# Altium footprint library PXHK.PCBLIB: 44 footprints (part 2 of 3)
Each footprint in its own frame and in the unit in brackets; x right, y up, seen from the top. Pads: shape width x height; smd on the part's side, far side on the other; paste and mask are expansions set on the pad; w line width, h text height; cw(c..) or ccw(c..) is an arc to the next point about the centre after c.
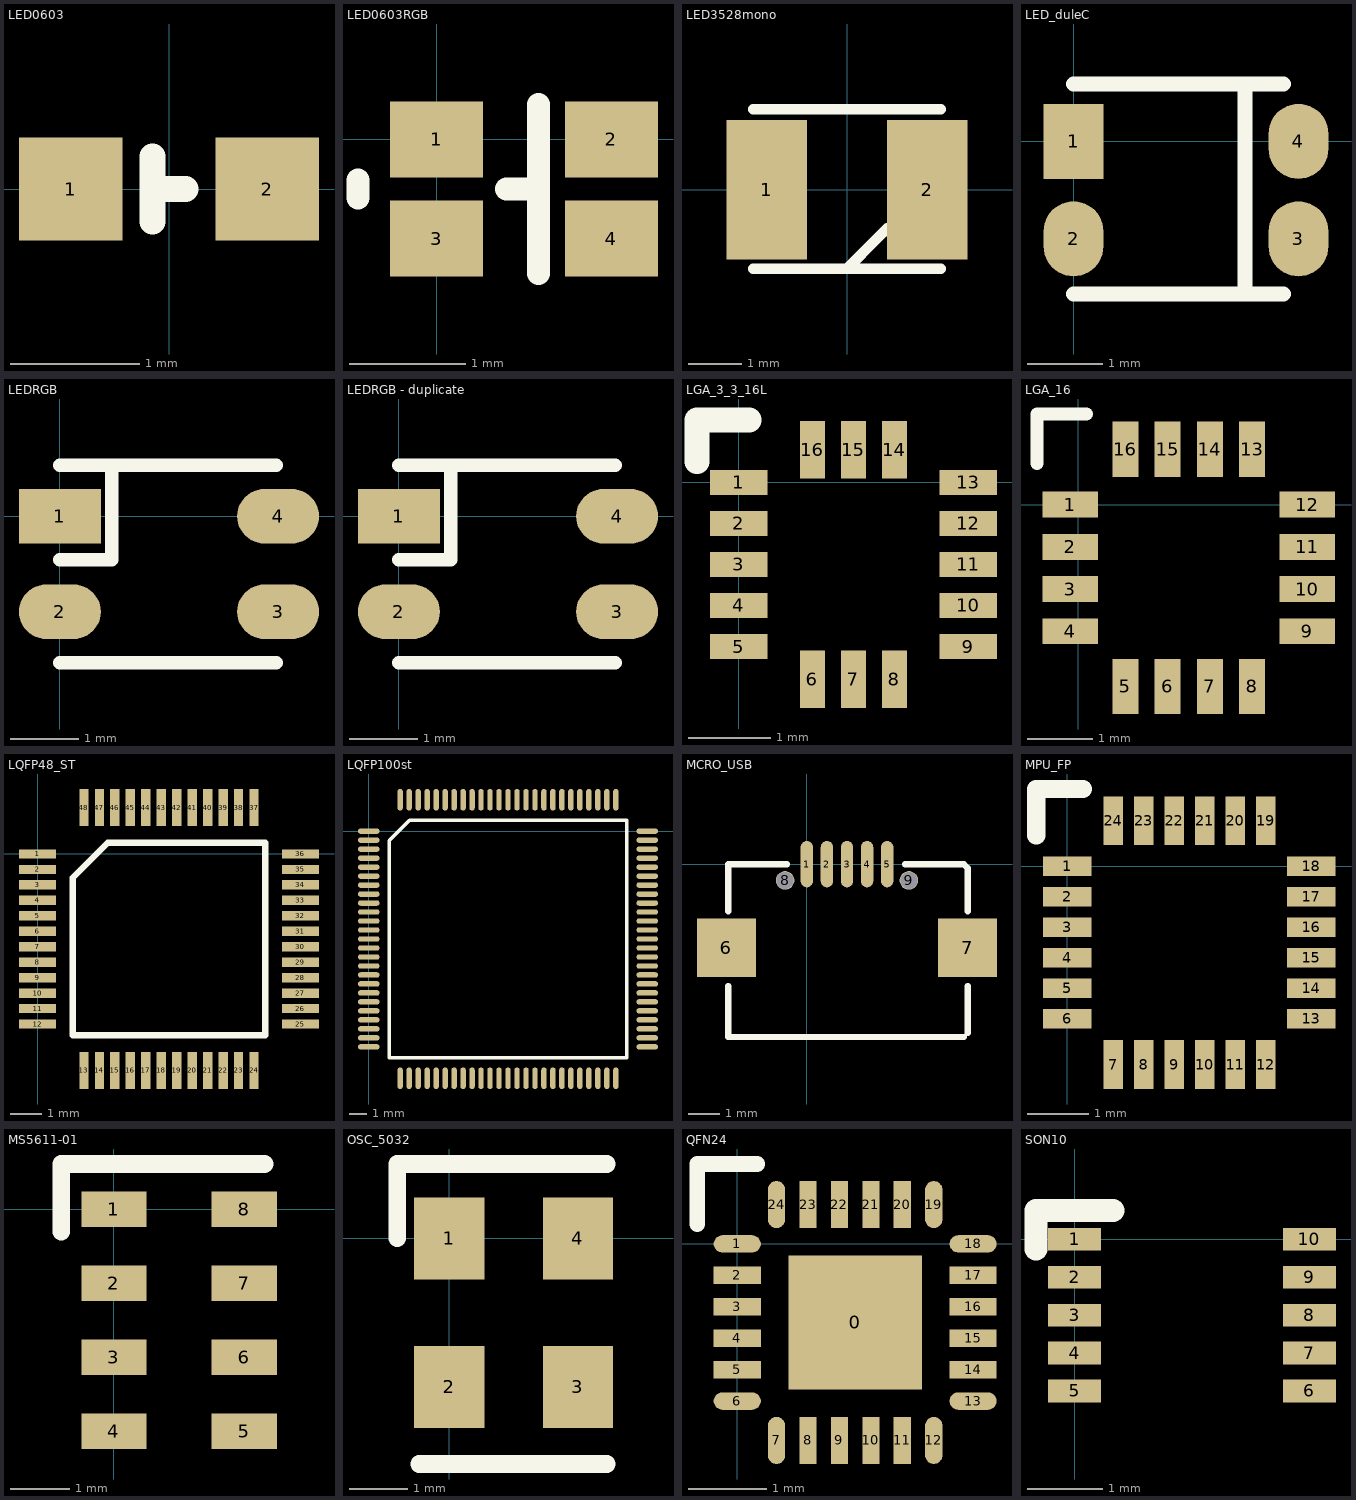
[diagram p1: the footprints below, top view; thin cyan lines are the x and y axes]

## LED0603 [mm]
pads (2):
  rect 0.8x0.8 smd: 1(-0.762,0) 2(0.762,0)
Top Overlay:
  lines w0.2: -0.127,-0.254 -0.127,0.254 ; -0.127,0 0.127,0

## LED0603RGB [mm]
height 0.6
pads (4):
  rect 0.8x0.65 smd: 1(0,0) 2(1.5,0) 3(0,-0.85) 4(1.5,-0.85)
Top Overlay:
  lines w0.2: -0.675,-0.5 -0.675,-0.35 ; 0.6,-0.425 0.875,-0.425 ; 0.875,-1.15 0.875,0.3

## LED3528mono [mm]
pads (2):
  rect 1.5x2.6 smd: 1(-1.5,0) 2(1.5,0)
Top Overlay:
  lines w0.2: -1.75,-1.475 1.75,-1.475 ; -1.75,1.5 1.75,1.5 ; 0.75,-0.725 0.575,-0.9 ; 0,-1.475 0,-1.475 ; 0,-1.475 0.575,-0.9 ; 0.575,-0.9 0.575,-0.9

## LED_duleC [mm]
pads (4):
  rect 0.8x1 smd: 1(0,0)
  oval 0.8x1 smd: 2(0,-1.3) 3(3,-1.3) 4(3,0)
Top Overlay:
  lines w0.2: 0,-2.032 2.8,-2.032 ; 0,0.762 2.8,0.762 ; 2.286,-2.032 2.286,0.762

## LEDRGB [mm]
pads (4):
  rect 1.2x0.8 smd: 1(0,0)
  oval 1.2x0.8 smd: 2(0,-1.4) 3(3.2,-1.4) 4(3.2,0)
Top Overlay:
  lines w0.2: 0,-2.15 3.175,-2.15 ; 0,-0.635 0.762,-0.635 0.762,-0.127 0.762,0.75 ; 0,0.75 3.175,0.75

## LEDRGB - duplicate [mm]
pads (4):
  rect 1.2x0.8 smd: 1(0,0)
  oval 1.2x0.8 smd: 2(0,-1.4) 3(3.2,-1.4) 4(3.2,0)
Top Overlay:
  lines w0.2: 0,-2.15 3.175,-2.15 ; 0,-0.635 0.762,-0.635 0.762,-0.127 0.762,0.75 ; 0,0.75 3.175,0.75

## LGA_3_3_16L [mm]
pads (16):
  rect 0.7x0.3 smd: 1(0,0) 2(0,-0.5) 3(0,-1) 4(0,-1.5) 5(0,-2) 9(2.8,-2) 10(2.8,-1.5) 11(2.8,-1) 12(2.8,-0.5) 13(2.8,0)
  rect 0.3x0.7 smd: 6(0.9,-2.4) 7(1.4,-2.4) 8(1.9,-2.4) 14(1.9,0.4) 15(1.4,0.4) 16(0.9,0.4)
Top Overlay:
  lines w0.3: -0.508,0.254 -0.508,0.762 0.127,0.762

## LGA_16 [mm]
pads (16):
  rect 0.85x0.4 smd: 1(-0.125,0) 2(-0.125,-0.65) 3(-0.125,-1.3) 4(-0.125,-1.95) 9(3.525,-1.95) 10(3.525,-1.3) 11(3.525,-0.65) 12(3.525,0)
  rect 0.4x0.85 smd: 5(0.725,-2.8) 6(1.375,-2.8) 7(2.025,-2.8) 8(2.675,-2.8) 13(2.675,0.855) 14(2.025,0.855) 15(1.375,0.855) 16(0.725,0.855)
Top Overlay:
  lines w0.2: -0.635,0.635 -0.635,1.397 0.127,1.397

## LQFP48_ST [mm]
pads (48):
  rect 1.2x0.3 smd: 1(0,0) 2(0,-0.5) 3(0,-1) 4(0,-1.5) 5(0,-2) 6(0,-2.5) 7(0,-3) 8(0,-3.5) 9(0,-4) 10(0,-4.5) 11(0,-5) 12(0,-5.5) 25(8.5,-5.5) 26(8.5,-5) 27(8.5,-4.5) 28(8.5,-4) 29(8.5,-3.5) 30(8.5,-3) 31(8.5,-2.5) 32(8.5,-2) 33(8.5,-1.5) 34(8.5,-1) 35(8.5,-0.5) 36(8.5,0)
  rect 0.3x1.2 smd: 13(1.5,-7) 14(2,-7) 15(2.5,-7) 16(3,-7) 17(3.5,-7) 18(4,-7) 19(4.5,-7) 20(5,-7) 21(5.5,-7) 22(6,-7) 23(6.5,-7) 24(7,-7) 37(7,1.5) 38(6.5,1.5) 39(6,1.5) 40(5.5,1.5) 41(5,1.5) 42(4.5,1.5) 43(4,1.5) 44(3.5,1.5) 45(3,1.5) 46(2.5,1.5) 47(2,1.5) 48(1.5,1.5)
Top Overlay:
  lines w0.2: 1.135,-5.865 1.135,-0.77 2.27,0.365 7.365,0.365 7.365,-5.865 1.135,-5.865

## LQFP100st [mm]
pads (100):
  oval 1.2x0.3 smd: 1(0,0) 2(0,-0.5) 3(0,-1) 4(0,-1.5) 5(0,-2) 6(0,-2.5) 7(0,-3) 8(0,-3.5) 9(0,-4) 10(0,-4.5) 11(0,-5) 12(0,-5.5) 13(0,-6) 14(0,-6.5) 15(0,-7) 16(0,-7.5) 17(0,-8) 18(0,-8.5) 19(0,-9) 20(0,-9.5) 21(0,-10) 22(0,-10.5) 23(0,-11) 24(0,-11.5) 25(0,-12) 51(15.5,-12) 52(15.5,-11.5) 53(15.5,-11) 54(15.5,-10.5) 55(15.5,-10) 56(15.5,-9.5) 57(15.5,-9) 58(15.5,-8.5) 59(15.5,-8) 60(15.5,-7.5) 61(15.5,-7) 62(15.5,-6.5) 63(15.5,-6) 64(15.5,-5.5) 65(15.5,-5) 66(15.5,-4.5) 67(15.5,-4) 68(15.5,-3.5) 69(15.5,-3) 70(15.5,-2.5) 71(15.5,-2) 72(15.5,-1.5) 73(15.5,-1) 74(15.5,-0.5) 75(15.5,0)
  oval 0.3x1.2 smd: 26(1.75,-13.75) 27(2.25,-13.75) 28(2.75,-13.75) 29(3.25,-13.75) 30(3.75,-13.75) 31(4.25,-13.75) 32(4.75,-13.75) 33(5.25,-13.75) 34(5.75,-13.75) 35(6.25,-13.75) 36(6.75,-13.75) 37(7.25,-13.75) 38(7.75,-13.75) 39(8.25,-13.75) 40(8.75,-13.75) 41(9.25,-13.75) 42(9.75,-13.75) 43(10.25,-13.75) 44(10.75,-13.75) 45(11.25,-13.75) 46(11.75,-13.75) 47(12.25,-13.75) 48(12.75,-13.75) 49(13.25,-13.75) 50(13.75,-13.75) 76(13.75,1.75) 77(13.25,1.75) 78(12.75,1.75) 79(12.25,1.75) 80(11.75,1.75) 81(11.25,1.75) 82(10.75,1.75) 83(10.25,1.75) 84(9.75,1.75) 85(9.25,1.75) 86(8.75,1.75) 87(8.25,1.75) 88(7.75,1.75) 89(7.25,1.75) 90(6.75,1.75) 91(6.25,1.75) 92(5.75,1.75) 93(5.25,1.75) 94(4.75,1.75) 95(4.25,1.75) 96(3.75,1.75) 97(3.25,1.75) 98(2.75,1.75) 99(2.25,1.75) 100(1.75,1.75)
Top Overlay:
  lines w0.2: 1.135,-12.615 1.135,-0.52 2.27,0.615 14.365,0.615 14.365,-12.615 1.135,-12.615

## MCRO_USB [mm]
pads (9):
  oval 0.4x1.5 smd: 1(0,0) 2(0.65,0) 3(1.3,0) 4(1.95,0) 5(2.6,0)
  rect 1.9x1.9 smd: 6(-2.6,-2.7) 7(5.2,-2.7)
  round 0.6 hole 0.55: 8(-0.7,-0.525) 9(3.3,-0.525)
Top Overlay:
  lines w0.2: -2.54,-3.937 -2.54,-5.588 5.08,-5.588 ; -2.54,-1.524 -2.54,0 -0.635,0 ; 3.175,0 5.08,0 5.207,-0.127 5.207,-1.524 ; 5.207,-5.461 5.207,-3.937

## MPU_FP [mm]
pads (24):
  rect 0.8x0.32 smd: 1(0,0) 2(0,-0.5) 3(0,-1) 4(0,-1.5) 5(0,-2) 6(0,-2.5) 13(4,-2.5) 14(4,-2) 15(4,-1.5) 16(4,-1) 17(4,-0.5) 18(4,0)
  rect 0.32x0.8 smd: 7(0.75,-3.25) 8(1.25,-3.25) 9(1.75,-3.25) 10(2.25,-3.25) 11(2.75,-3.25) 12(3.25,-3.25) 19(3.25,0.75) 20(2.75,0.75) 21(2.25,0.75) 22(1.75,0.75) 23(1.25,0.75) 24(0.75,0.75)
Top Overlay:
  lines w0.3: -0.508,0.508 -0.508,1.27 0.254,1.27

## MS5611-01 [mm]
pads (8):
  rect 1.1x0.6 smd: 1(0,0) 2(0,-1.25) 3(0,-2.5) 4(0,-3.75) 5(2.2,-3.75) 6(2.2,-2.5) 7(2.2,-1.25) 8(2.2,0)
Top Overlay:
  lines w0.3: -0.889,-0.381 -0.889,0.762 0.127,0.762 ; -0.46,0.762 2.54,0.762

## OSC_5032 [mm]
pads (4):
  rect 1.2x1.4 smd: 1(0,0) 2(0,-2.54) 3(2.2,-2.54) 4(2.2,0)
Top Overlay:
  lines w0.3: -0.889,0 -0.889,1.27 -0.508,1.27 2.692,1.27 ; -0.508,-3.857 2.692,-3.857

## QFN24 [mm]
pads (25):
  rect 1.7x1.7 smd paste-0.5 mask+0: 0(1.5,-1)
  oval 0.6x0.22 smd: 1(0,0) 6(0,-2) 13(3,-2) 18(3,0)
  rect 0.6x0.22 smd: 2(0,-0.4) 3(0,-0.8) 4(0,-1.2) 5(0,-1.6) 14(3,-1.6) 15(3,-1.2) 16(3,-0.8) 17(3,-0.4)
  oval 0.22x0.6 smd: 7(0.5,-2.5) 12(2.5,-2.5) 19(2.5,0.5) 24(0.5,0.5)
  rect 0.22x0.6 smd: 8(0.9,-2.5) 9(1.3,-2.5) 10(1.7,-2.5) 11(2.1,-2.5) 20(2.1,0.5) 21(1.7,0.5) 22(1.3,0.5) 23(0.9,0.5)
Top Overlay:
  lines w0.2: -0.508,0.254 -0.508,1.016 0.254,1.016

## SON10 [mm]
pads (10):
  rect 0.7x0.3 smd: 1(0,0) 2(0,-0.5) 3(0,-1) 4(0,-1.5) 5(0,-2) 6(3.1,-2) 7(3.1,-1.5) 8(3.1,-1) 9(3.1,-0.5) 10(3.1,0)
Top Overlay:
  lines w0.3: -0.508,-0.127 -0.508,0.381 0.508,0.381